# Altium schematic symbol library Sensor,Gyroscope,L3GD20HTR.Schlib: 1 symbol
Pins are listed as number, name and electrical type; pins without a type are passive.

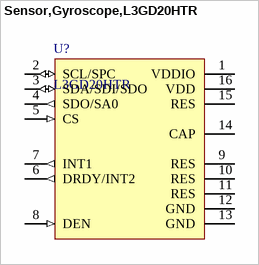
[diagram p0: symbol Sensor,Gyroscope,L3GD20HTR]

## Sensor,Gyroscope,L3GD20HTR
designator U?, comment L3GD20HTR
Gyroscope X (Pitch), Y (Roll), Z (Yaw) ±245, 500, 2000 6.25Hz ~ 400Hz I²C, SPI 16-LGA (3x3)
pins: 1 VDDIO, 2 SCL/SPC (io), 3 SDA/SDI/SDO (io), 4 SDO/SA0 (out), 5 CS (in), 6 DRDY/INT2 (out), 7 INT1 (out), 8 DEN (in), 9 RES, 10 RES, 11 RES, 12 GND, 13 GND, 14 CAP, 15 RES, 16 VDD